# Altium footprint library Wei_PcbLib1.PcbLib: 49 footprints (part 3 of 4)
Each footprint in its own frame and in the unit in brackets; x right, y up, seen from the top. Pads: shape width x height; smd on the part's side, far side on the other; paste and mask are expansions set on the pad; w line width, h text height; cw(c..) or ccw(c..) is an arc to the next point about the centre after c.
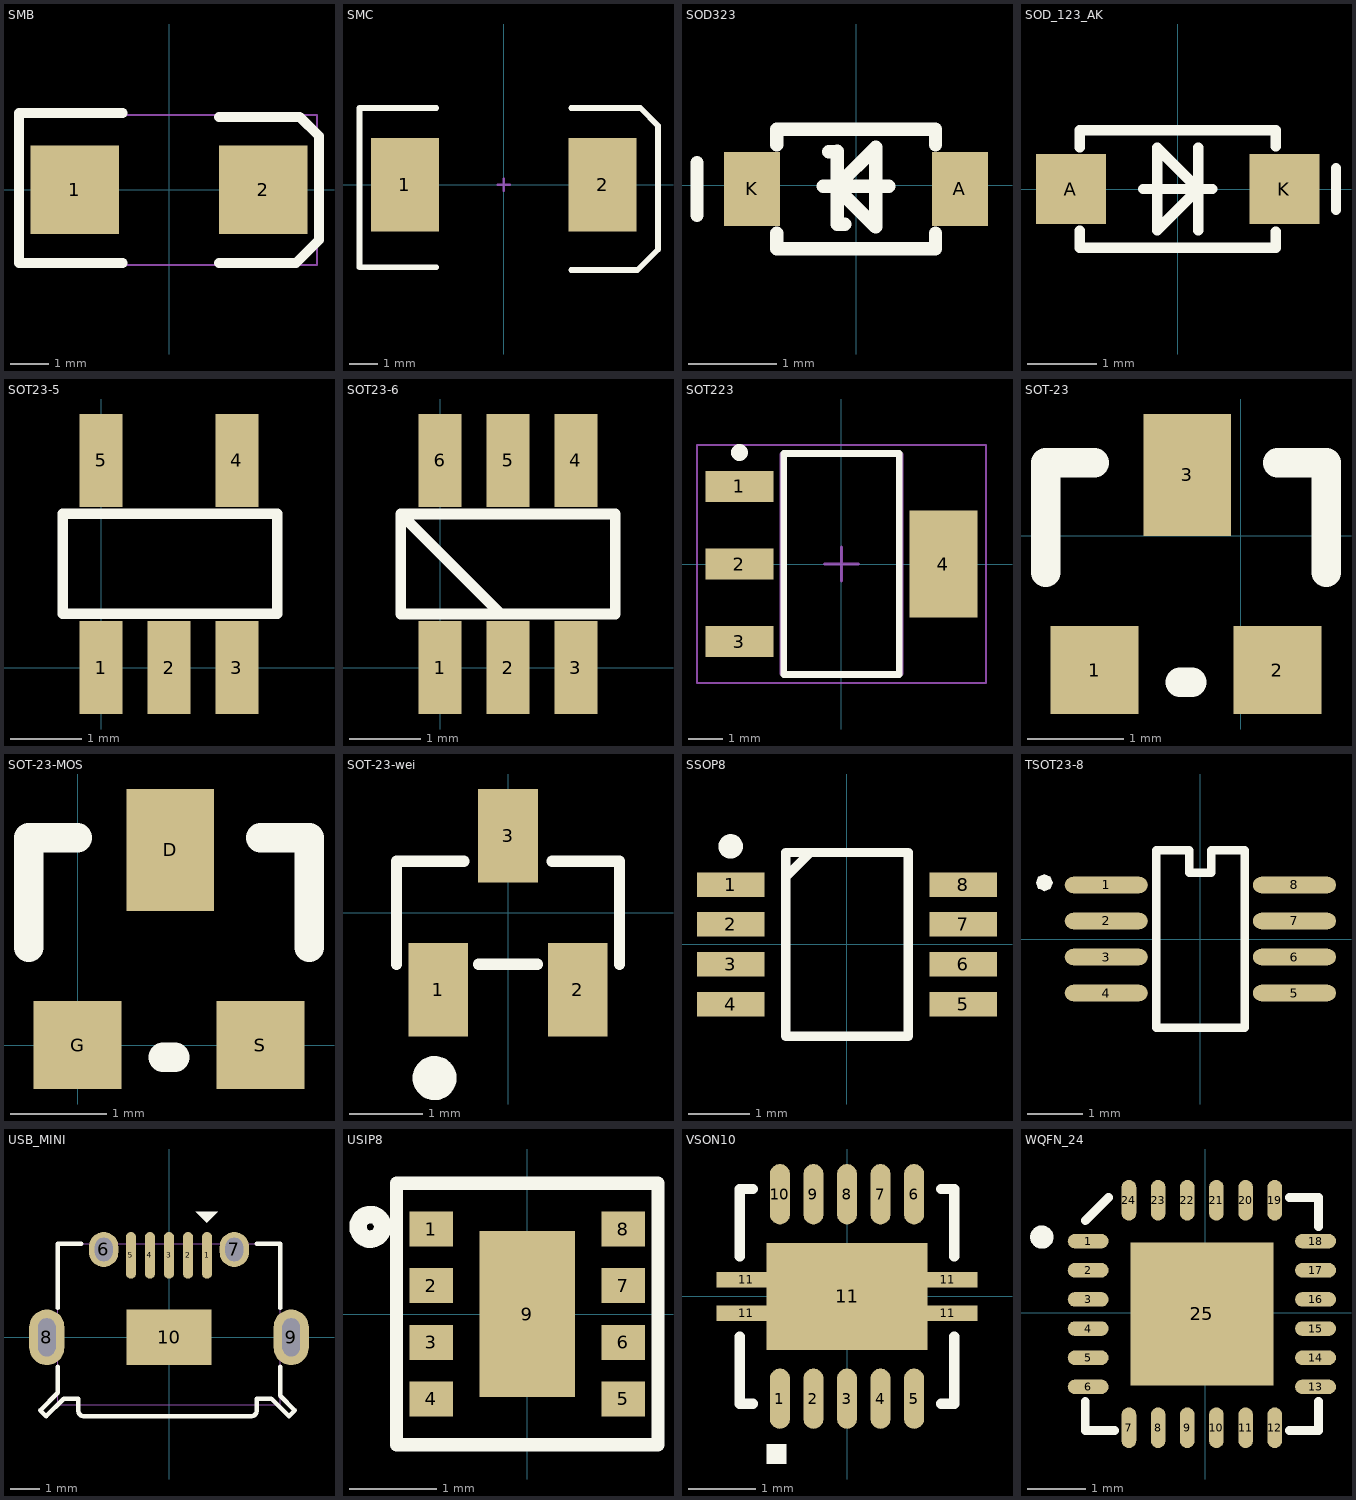
[diagram p2: the footprints below, top view; thin cyan lines are the x and y axes]

## SMB [mm]
pads (2):
  rect 2.3x2.3 smd: 1(-2.45,0) 2(2.45,0)
Top Overlay:
  lines w0.254: -1.2,-1.9 -3.9,-1.9 -3.9,2 -1.2,2 ; 1.3,-1.9 3.3,-1.9 3.9,-1.3 3.9,1.4 3.4,1.9 1.3,1.9
Mechanical 16:
  lines w0.05: -3.85,-1.95 3.85,-1.95 3.85,1.95 -3.85,1.95 -3.85,-1.95
3D body "User Library-DO-214AA(SMB).step": height 2.6, standoff -0.05, extent -2.794,-1.975 2.794,1.975

## SMC [mm] "DO-214-AB/SMC; 2 C-Bend Leads; Body 7.9 x 5.9 mm, inc. leads (LxW)"
height 2.65
pads (2):
  rect 2.4x3.3 smd: 1(-3.475,0) 2(3.475,0)
Top Overlay:
  lines w0.2: -2.375,-2.9 -5.075,-2.9 -5.075,2.7 -2.375,2.7 ; 2.375,-3 4.7,-3 5.425,-2.275 5.425,2.073 4.804,2.7 2.375,2.7
Mechanical 1:
  lines w0.1: -0.2,0 0.2,0 ; 0,-0.2 0,0.2

## SOD323 [mil]
pads (2):
  rect 25x33 smd: A(46.14,-1.65) K(-46.46,-1.65)
Top Overlay:
  lines w6: -70.98,-13.45 -70.98,10.15 ; -35.56,-21.35 -35.56,-28.25 35.24,-28.25 35.24,-21.35 ; -35.56,18.05 -35.56,24.94 35.24,24.94 35.24,18.05 ; -14.76,-0.45 14.44,-0.45 ; -12.36,14.85 -8.46,14.85 ; -9.76,-0.25 8.64,-18.56 8.64,16.85 -8.96,-0.65 ; -8.46,-17.45 -5.26,-17.45 ; -8.46,-17.06 -8.46,15.25

## SOD_123_AK [mil]
pads (2):
  rect 40x40 smd: A(-61.02,0) K(61.02,0)
Top Overlay:
  lines w6: -56.1,-24 -56.1,-33.5 56.1,-33.5 56.1,-24.4 ; -56.1,24 -56.1,33.5 56.1,33.5 56.1,24.4 ; -19.7,0 19.7,0 ; 11.8,-23.6 11.8,23.6 ; 90.56,-11.8 90.56,11.8 ; -11.8,-23.6 11.8,0 -11.8,23.6 -11.8,-23.6

## SOT23-5 [mm]
pads (5):
  rect 0.6x1.3 smd: 1(0,0) 2(0.95,0) 3(1.9,0) 4(1.9,2.9) 5(0,2.9)
Top Overlay:
  lines w0.15: -0.536,0.752 2.464,0.752 2.464,2.152 -0.536,2.152 -0.536,0.752

## SOT23-6 [mm]
pads (6):
  rect 0.6x1.3 smd: 1(0,0) 2(0.95,0) 3(1.9,0) 4(1.9,2.9) 5(0.95,2.9) 6(0,2.9)
Top Overlay:
  lines w0.15: 0.85,0.75 -0.55,2.15 ; -0.55,2.15 2.45,2.15 2.45,0.75 -0.55,0.75 -0.55,2.15

## SOT223 [mm] "SOT223, 4-Leads, Body 6.40x7.00mm (avg)"
height 1.65
pads (4):
  rect 2x0.9 smd: 1(-3,2.28) 2(-3,0) 3(-3,-2.28)
  rect 2x3.15 smd: 4(3,0)
Top Overlay:
  circle w0.25: c-3,3.28 r0.125
  lines w0.2: -1.7,-3.25 -1.7,3.25 1.7,3.25 1.7,-3.25 -1.7,-3.25
Mechanical 13:
  lines w0.1: -1.775,-3.225 -1.775,3.225 1.775,3.225 1.775,-3.225 -1.775,-3.225
Mechanical 15:
  lines w0.05: -4.25,-3.5 -4.25,3.5 4.25,3.5 4.25,-3.5 -4.25,-3.5
  lines w0.1: -0.5,0 0.5,0 ; 0,-0.5 0,0.5
3D body: height 1.65, standoff 0.02, extent -1.775,-3.225 1.775,3.225

## SOT-23 [mil]
pads (3):
  rect 36x36 smd: 1(-60,-55) 2(15,-55)
  rect 36x50 smd: 3(-22,25)
Top Overlay:
  lines w12: -80,-15 -80,30 -60,30 ; -25,-60 -20,-60 ; 15,30 35,30 35,-15

## SOT-23-MOS [mil]
pads (3):
  rect 36x50 smd: D(38,80)
  rect 36x36 smd: G(0,0) S(75,0)
Top Overlay:
  lines w12: -20,40 -20,85 0,85 ; 35,-5 40,-5 ; 75,85 95,85 95,40

## SOT-23-wei [mm]
pads (3):
  rect 0.813x1.27 smd: 1(-0.95,-1.049) 2(0.95,-1.049) 3(0,1.049)
Top Overlay:
  circle w0.3: c-1,-2.25 r0.149
  lines w0.152: -1.519,-0.701 -1.519,0.701 -0.599,0.701 ; -0.401,-0.701 0.401,-0.701 ; 0.599,0.701 1.519,0.701 1.519,-0.701

## SSOP8 [mm]
pads (8):
  rect 1.1x0.4 smd mask+0.102: 1(-1.9,0.975) 2(-1.9,0.325) 3(-1.9,-0.325) 4(-1.9,-0.975) 5(1.9,-0.975) 6(1.9,-0.325) 7(1.9,0.325) 8(1.9,0.975)
Top Overlay:
  circle w0.2: c-1.9,1.6 r0.1
  lines w0.152: -1,1.1 -0.6,1.5 ; -1,-1.5 1,-1.5 1,1.5 -1,1.5 -1,-1.2 -1,-1.5

## TSOT23-8 [mm]
pads (8):
  oval 1.5x0.3 smd: 1(-1.7,0.975) 2(-1.7,0.325) 3(-1.7,-0.325) 4(-1.7,-0.975) 5(1.7,-0.975) 6(1.7,-0.325) 7(1.7,0.325) 8(1.7,0.975)
Top Overlay:
  region: -2.662,1.02 -2.707,1.128 -2.815,1.173 -2.887,1.143 -2.924,1.128 -2.968,1.02 -2.924,0.911 -2.887,0.896 -2.815,0.867 -2.707,0.911
  lines w0.152: -0.8,-1.6 -0.8,1.6 -0.2,1.6 -0.2,1.2 0.2,1.2 0.2,1.6 0.8,1.6 0.8,-1.6 -0.8,-1.6

## USB_MINI [mm]
pads (10):
  oval 0.35x1.6 smd: 1(1.3,2.8) 2(0.65,2.8) 3(0,2.8) 4(-0.65,2.8) 5(-1.3,2.8)
  oval 1x1.2 / inner round 1.524 / far side oval 1x1.2 hole 0.6 slot 0.8 at 90 deg: 6(-2.23,3) 7(2.23,3)
  oval 1.2x1.9 / inner round 1.524 / far side oval 1.2x1.9 hole 0.6 slot 1.3 at 90 deg: 8(-4.175,0) 9(4.175,0)
  rect 2.9x1.9 smd: 10(0,0)
Top Overlay:
  region: 0.91,4.29 1.672,4.29 1.291,3.909
  lines w0.152: -3.8,-1 -3.8,-1.9 -4.4,-2.5 -4.2,-2.7 -3.6,-2.1 -3.1,-2.1 -3.1,-2.5 ccw(c-2.9,-2.5) -2.9,-2.7 2.8,-2.7 ccw(c2.8,-2.5) 3,-2.5 3,-2.1 3.5,-2.1 4.1,-2.7 4.3,-2.5 3.8,-2 3.8,-1 ; -3.8,1 -3.8,3.2 -3,3.2 ; 3,3.2 3.8,3.2 3.8,1
Mechanical 8:
  lines w0.025: -3.7,3.2 -3.8,3.2 ; -3.8,3.2 3.8,3.2 3.8,-2.3 -3.8,-2.3 -3.8,3.2

## USIP8 [mm]
pads (9):
  rect 0.5x0.4 smd mask+0.05: 1(-1.1,0.975) 2(-1.1,0.325) 3(-1.1,-0.325) 4(-1.1,-0.975) 5(1.1,-0.975) 6(1.1,-0.325) 7(1.1,0.325) 8(1.1,0.975)
  rect 1.1x1.9 smd: 9(0,0)
Top Overlay:
  circle w0.2: c-1.8,1 r0.141
  lines w0.152: -1.4,-1.5 1.4,-1.5 ; -1.5,-1.5 -1.5,1.5 -1.4,1.5 1.4,1.5 1.5,1.5 1.5,-1.5 -1.5,-1.5

## VSON10 [mm]
pads (15):
  oval 0.3x0.9 smd mask+0.05: 1(-1,-1.525) 2(-0.5,-1.525) 3(0,-1.525) 4(0.5,-1.525) 5(1,-1.525) 6(1,1.525) 7(0.5,1.525) 8(0,1.525) 9(-0.5,1.525) 10(-1,1.525)
  rect 0.9x0.23 smd mask+0.05: 11(-1.5,-0.25) 11(-1.5,0.25) 11(1.5,-0.25) 11(1.5,0.25)
  rect 2.4x1.6 smd paste+0 mask+0.05: 11(0,0)
Top Overlay:
  rectangle: -1.2,-2.5 -0.9,-2.2
  lines w0.152: -1.6,-0.6 -1.6,-1.6 ; -1.6,0.6 -1.6,1.6 -1.4,1.6 ; -1.4,-1.6 -1.6,-1.6 ; 1.4,-1.6 1.6,-1.6 1.6,-0.6 ; 1.4,1.6 1.6,1.6 1.6,0.6 ; -1.6,-1.6 -1.604,-1.6 -1.6,-1.6

## WQFN_24 [mm]
pads (25):
  oval 0.7x0.25 smd: 1(-2.006,1.231) 2(-2.006,0.731) 3(-2.006,0.231) 4(-2.006,-0.269) 5(-2.006,-0.769) 6(-2.006,-1.269) 13(1.894,-1.269) 14(1.894,-0.769) 15(1.894,-0.269) 16(1.894,0.231) 17(1.894,0.731) 18(1.894,1.231)
  oval 0.25x0.7 smd: 7(-1.306,-1.969) 8(-0.806,-1.969) 9(-0.306,-1.969) 10(0.194,-1.969) 11(0.694,-1.969) 12(1.194,-1.969) 19(1.194,1.931) 20(0.694,1.931) 21(0.194,1.931) 22(-0.306,1.931) 23(-0.806,1.931) 24(-1.306,1.931)
  rect 2.45x2.45 smd: 25(-0.056,-0.019)
Top Overlay:
  circle w0.2: c-2.8,1.3 r0.1
  lines w0.152: -2.056,-1.519 -2.056,-2.019 -1.556,-2.019 ; -2.056,1.581 -1.656,1.981 ; 1.444,-2.019 1.944,-2.019 1.944,-1.519 ; 1.444,1.981 1.944,1.981 1.944,1.481